# Altium schematic symbol library TSW-103-07-G-S.SchLib: 1 symbol
Pins are listed as number, name and electrical type; pins without a type are passive.

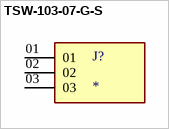
[diagram p0: symbol TSW-103-07-G-S]

## TSW-103-07-G-S
designator J?
MF: {'manufacturer': u'Samtec'}; MP: TSW-103-07-G-S; Package: None; Price: None; Value: *; Availability: Unavailable
footprint SAMTEC_TSW-103-07-G-S
pins: 01, 02, 03